# Altium integrated library ON Semi Signal Management Operational Amplifiers.IntLib: 435 symbols (part 10 of 12)
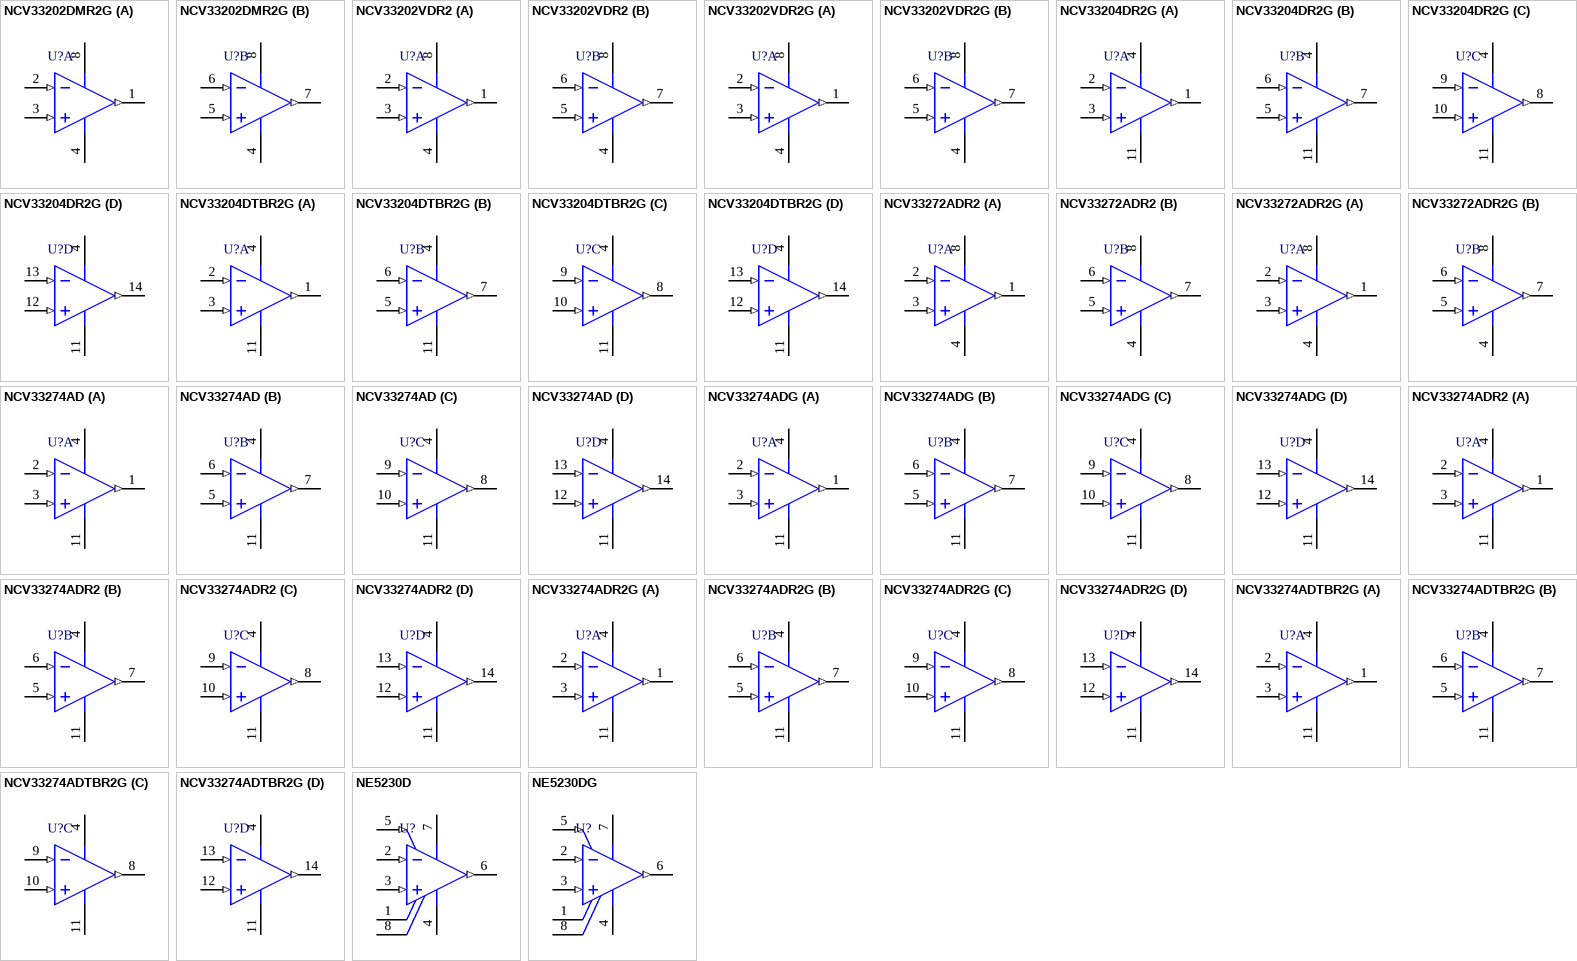
[diagram p34: symbols NCV33202DMR2G to NE5230DG]

## NE5230D
designator U?
Low Voltage Operational Amplifier, 1.8 to 15 V, 0 to 70 degC, 8-Pin SOIC, Tube; Manufacturer: On Semiconductor; PartNumber: NE5230D; GBW Typ (MHz): 0.25; VCC Max (V): 15; VCC Min (V): 1.8; DatasheetVersion: Rev. 5; PackageVersion: Rev. AK, 02/2011; PackageReference: SOIC-8-751-07; PackageDescription: 8-Pin Small Outline Integrated Circuit, Body 4.9 x 3.9 mm, Pitch 1.27 mm; Supplier 1: Digi-Key; Supplier Part Number 1: NE5230D-ND; Packing: Tube; RoHS: FALSE; Mounting Technology: Surface Mount; ComponentLink1Description: Manufacturer URL; ComponentLink1URL: http://www.onsemi.com/; ComponentLink2Description: Datasheet; ComponentLink2URL: http://www.onsemi.cn/pub_link/Collateral/NE5230-D.PDF; ComponentLink3Description: Package Specification; ComponentLink3URL: http://www.onsemi.com/pub_link/Collateral/751-07.PDF
footprint ONSC-SOIC-8-751-07_V (SOIC, 8-Leads, Body 4.9x3.9mm, Pitch 1.27mm)
pins: 1 NC, 2 IN- (in), 3 IN+ (in), 4 VEE (power), 5 BIAS ADJ (in), 6 OUT (out), 7 VCC (power), 8 NC

## NE5230DG
designator U?
Low Voltage Operational Amplifier, 1.8 to 15 V, 0 to 70 degC, 8-Pin SOIC, Pb-Free, Tube; Manufacturer: On Semiconductor; PartNumber: NE5230DG; GBW Typ (MHz): 0.25; VCC Max (V): 15; VCC Min (V): 1.8; DatasheetVersion: Rev. 5; PackageVersion: Rev. AK, 02/2011; PackageReference: SOIC-8-751-07; PackageDescription: 8-Pin Small Outline Integrated Circuit, Body 4.9 x 3.9 mm, Pitch 1.27 mm; Supplier 1: Digi-Key; Supplier Part Number 1: NE5230DG-ND; Supplier 2: Mouser; Supplier Part Number 2: 863-NE5230DG; Packing: Tube; RoHS: TRUE; Mounting Technology: Surface Mount; ComponentLink1Description: Manufacturer URL; ComponentLink1URL: http://www.onsemi.com/; ComponentLink2Description: Datasheet; ComponentLink2URL: http://www.onsemi.cn/pub_link/Collateral/NE5230-D.PDF; ComponentLink3Description: Package Specification; ComponentLink3URL: http://www.onsemi.com/pub_link/Collateral/751-07.PDF
footprint ONSC-SOIC-8-751-07_V (SOIC, 8-Leads, Body 4.9x3.9mm, Pitch 1.27mm)
pins: 1 NC, 2 IN- (in), 3 IN+ (in), 4 VEE (power), 5 BIAS ADJ (in), 6 OUT (out), 7 VCC (power), 8 NC

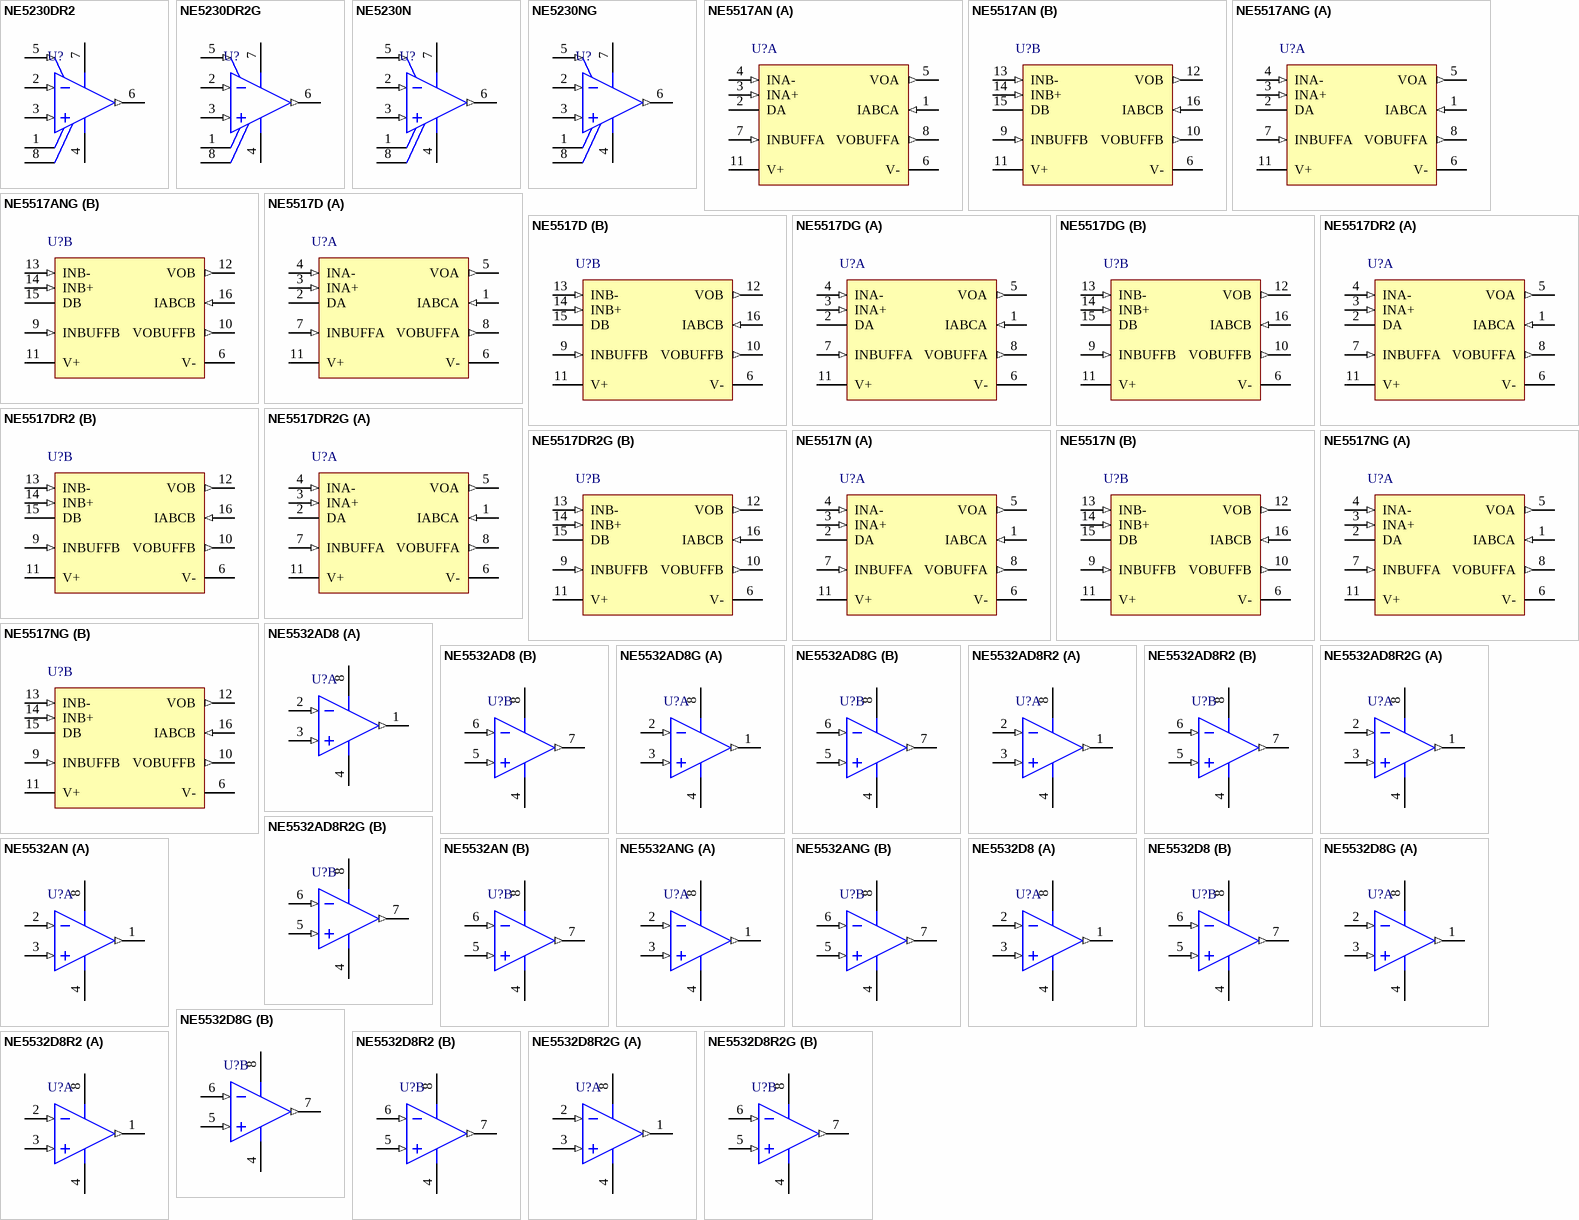
[diagram p22: symbols NE5230DR2 to NE5532D8R2G]

## NE5230DR2
designator U?
Low Voltage Operational Amplifier, 1.8 to 15 V, 0 to 70 degC, 8-Pin SOIC, Tape and Reel; Manufacturer: On Semiconductor; PartNumber: NE5230DR2; GBW Typ (MHz): 0.25; VCC Max (V): 15; VCC Min (V): 1.8; DatasheetVersion: Rev. 5; PackageVersion: Rev. AK, 02/2011; PackageReference: SOIC-8-751-07; PackageDescription: 8-Pin Small Outline Integrated Circuit, Body 4.9 x 3.9 mm, Pitch 1.27 mm; Supplier 1: Digi-Key; Supplier Part Number 1: NE5230DR2-ND; Packing: Tape and Reel; RoHS: FALSE; Mounting Technology: Surface Mount; ComponentLink1Description: Manufacturer URL; ComponentLink1URL: http://www.onsemi.com/; ComponentLink2Description: Datasheet; ComponentLink2URL: http://www.onsemi.cn/pub_link/Collateral/NE5230-D.PDF; ComponentLink3Description: Package Specification; ComponentLink3URL: http://www.onsemi.com/pub_link/Collateral/751-07.PDF
footprint ONSC-SOIC-8-751-07_V (SOIC, 8-Leads, Body 4.9x3.9mm, Pitch 1.27mm)
pins: 1 NC, 2 IN- (in), 3 IN+ (in), 4 VEE (power), 5 BIAS ADJ (in), 6 OUT (out), 7 VCC (power), 8 NC

## NE5230DR2G
designator U?
Low Voltage Operational Amplifier, 1.8 to 15 V, 0 to 70 degC, 8-Pin SOIC, Pb-Free, Tape and Reel; Manufacturer: On Semiconductor; PartNumber: NE5230DR2G; GBW Typ (MHz): 0.25; VCC Max (V): 15; VCC Min (V): 1.8; DatasheetVersion: Rev. 5; PackageVersion: Rev. AK, 02/2011; PackageReference: SOIC-8-751-07; PackageDescription: 8-Pin Small Outline Integrated Circuit, Body 4.9 x 3.9 mm, Pitch 1.27 mm; Supplier 1: Digi-Key; Supplier Part Number 1: NE5230DR2GOSTR-ND; Supplier 2: Digi-Key; Supplier Part Number 2: NE5230DR2GOSCT-ND; Supplier 3: Mouser; Supplier Part Number 3: 863-NE5230DR2G; Packing: Tape and Reel; RoHS: TRUE; Mounting Technology: Surface Mount; ComponentLink1Description: Manufacturer URL; ComponentLink1URL: http://www.onsemi.com/; ComponentLink2Description: Datasheet; ComponentLink2URL: http://www.onsemi.cn/pub_link/Collateral/NE5230-D.PDF; ComponentLink3Description: Package Specification; ComponentLink3URL: http://www.onsemi.com/pub_link/Collateral/751-07.PDF
footprint ONSC-SOIC-8-751-07_V (SOIC, 8-Leads, Body 4.9x3.9mm, Pitch 1.27mm)
pins: 1 NC, 2 IN- (in), 3 IN+ (in), 4 VEE (power), 5 BIAS ADJ (in), 6 OUT (out), 7 VCC (power), 8 NC

## NE5230N
designator U?
Low Voltage Operational Amplifier, 1.8 to 15 V, 0 to 70 degC, 8-Pin PDIP, Tube; Manufacturer: On Semiconductor; PartNumber: NE5230N; GBW Typ (MHz): 0.25; VCC Max (V): 15; VCC Min (V): 1.8; DatasheetVersion: Rev. 5; PackageVersion: Rev. M, 04/2010; PackageReference: PDIP-8-626-05; PackageDescription: 8-Pin Plastic Dual-In Line Package, Body 9.52 x 6.605 mm, Pitch 2.54 mm; Packing: Tube; RoHS: FALSE; Mounting Technology: Through Hole; ComponentLink1Description: Manufacturer URL; ComponentLink1URL: http://www.onsemi.com/; ComponentLink2Description: Datasheet; ComponentLink2URL: http://www.onsemi.cn/pub_link/Collateral/NE5230-D.PDF; ComponentLink3Description: Package Specification; ComponentLink3URL: http://www.onsemi.com/pub_link/Collateral/LM211-D.PDF
footprint ONSC-PDIP-8-626-05_M (DIP, 8-Leads, Body 10x7.1mm, Pitch 2.54mm)
pins: 1 NC, 2 IN- (in), 3 IN+ (in), 4 VEE (power), 5 BIAS ADJ (in), 6 OUT (out), 7 VCC (power), 8 NC

## NE5230NG
designator U?
Low Voltage Operational Amplifier, 1.8 to 15 V, 0 to 70 degC, 8-Pin PDIP, Pb-Free, Tube; Manufacturer: On Semiconductor; PartNumber: NE5230NG; GBW Typ (MHz): 0.25; VCC Max (V): 15; VCC Min (V): 1.8; DatasheetVersion: Rev. 5; PackageVersion: Rev. M, 04/2010; PackageReference: PDIP-8-626-05; PackageDescription: 8-Pin Plastic Dual-In Line Package, Body 9.52 x 6.605 mm, Pitch 2.54 mm; Supplier 1: Digi-Key; Supplier Part Number 1: NE5230NG-ND; Supplier 2: Newark; Supplier Part Number 2: 42K2204; Supplier 3: Mouser; Supplier Part Number 3: 863-NE5230NG; Packing: Tube; RoHS: TRUE; Mounting Technology: Through Hole; ComponentLink1Description: Manufacturer URL; ComponentLink1URL: http://www.onsemi.com/; ComponentLink2Description: Datasheet; ComponentLink2URL: http://www.onsemi.cn/pub_link/Collateral/NE5230-D.PDF; ComponentLink3Description: Package Specification; ComponentLink3URL: http://www.onsemi.com/pub_link/Collateral/LM211-D.PDF
footprint ONSC-PDIP-8-626-05_M (DIP, 8-Leads, Body 10x7.1mm, Pitch 2.54mm)
pins: 1 NC, 2 IN- (in), 3 IN+ (in), 4 VEE (power), 5 BIAS ADJ (in), 6 OUT (out), 7 VCC (power), 8 NC

## NE5517AN
designator U?
Dual Operational Transconductance Amplifier, 0 to 70 degC, 16-Pin PDIP, Tube; Manufacturer: On Semiconductor; PartNumber: NE5517AN; GBW Typ (MHz): 2; SR Typ (V/uS): 50; DatasheetVersion: Rev. 4; PackageVersion: Rev. U, 06/2013; PackageReference: PDIP-16-648-08; PackageDescription: 16-Pin Plastic Dual-In Line Package, Body 19.18 x 6.605 mm, Pitch 2.54 mm; Supplier 1: Digi-Key; Supplier Part Number 1: NE5517AN-ND; Supplier 2: Mouser; Supplier Part Number 2: 863-NE5517AN; Packing: Tube; RoHS: FALSE; Mounting Technology: Through Hole; ComponentLink1Description: Manufacturer URL; ComponentLink1URL: http://www.onsemi.com/; ComponentLink2Description: Datasheet; ComponentLink2URL: http://www.onsemi.cn/pub_link/Collateral/NE5517-D.PDF; ComponentLink3Description: Package Specification; ComponentLink3URL: http://www.onsemi.com/pub_link/Collateral/648-08.PDF
footprint ONSC-PDIP-16-648-08 (DIP, 16-Leads, Body 19.7x7.1mm, Pitch 2.54mm)
pins on every part: 6 V- (power) "Negative Supply", 11 V+ (power) "Positive Supply"
part A pins: 1 IABCA (in) "Amplifier Bias Input A", 2 DA "Diode Bias A", 3 INA+ (in) "Non-inverted Input A", 4 INA- (in) "Inverted Input A", 5 VOA (out) "Output A", 7 INBUFFA (in) "Buffer Input A", 8 VOBUFFA (out) "Buffer Output A"
part B pins: 9 INBUFFB (in) "Buffer Input B", 10 VOBUFFB (out) "Buffer Output B", 12 VOB (out) "Output B", 13 INB- (in) "Inverted Input B", 14 INB+ (in) "Non-inverted Input B", 15 DB "Diode Bias B", 16 IABCB (in) "Amplifier Bias Input B"

## NE5517ANG
designator U?
Dual Operational Transconductance Amplifier, 0 to 70 degC, 16-Pin PDIP, Pb-Free, Tube; Manufacturer: On Semiconductor; PartNumber: NE5517ANG; GBW Typ (MHz): 2; SR Typ (V/uS): 50; DatasheetVersion: Rev. 4; PackageVersion: Rev. U, 06/2013; PackageReference: PDIP-16-648-08; PackageDescription: 16-Pin Plastic Dual-In Line Package, Body 19.18 x 6.605 mm, Pitch 2.54 mm; Supplier 1: Digi-Key; Supplier Part Number 1: NE5517ANGOS-ND; Supplier 2: Newark; Supplier Part Number 2: 42K2205; Supplier 3: Mouser; Supplier Part Number 3: 863-NE5517ANG; Packing: Tube; RoHS: TRUE; Mounting Technology: Through Hole; ComponentLink1Description: Manufacturer URL; ComponentLink1URL: http://www.onsemi.com/; ComponentLink2Description: Datasheet; ComponentLink2URL: http://www.onsemi.cn/pub_link/Collateral/NE5517-D.PDF; ComponentLink3Description: Package Specification; ComponentLink3URL: http://www.onsemi.com/pub_link/Collateral/648-08.PDF
footprint ONSC-PDIP-16-648-08 (DIP, 16-Leads, Body 19.7x7.1mm, Pitch 2.54mm)
pins on every part: 6 V- (power) "Negative Supply", 11 V+ (power) "Positive Supply"
part A pins: 1 IABCA (in) "Amplifier Bias Input A", 2 DA "Diode Bias A", 3 INA+ (in) "Non-inverted Input A", 4 INA- (in) "Inverted Input A", 5 VOA (out) "Output A", 7 INBUFFA (in) "Buffer Input A", 8 VOBUFFA (out) "Buffer Output A"
part B pins: 9 INBUFFB (in) "Buffer Input B", 10 VOBUFFB (out) "Buffer Output B", 12 VOB (out) "Output B", 13 INB- (in) "Inverted Input B", 14 INB+ (in) "Non-inverted Input B", 15 DB "Diode Bias B", 16 IABCB (in) "Amplifier Bias Input B"

## NE5517D
designator U?
Dual Operational Transconductance Amplifier, 0 to 70 degC, 16-Pin SOIC, Tube; Manufacturer: On Semiconductor; PartNumber: NE5517D; GBW Typ (MHz): 2; SR Typ (V/uS): 50; DatasheetVersion: Rev. 4; PackageVersion: Rev. K, 12/2006; PackageReference: SOIC-16-751B-05; PackageDescription: 16-Pin Small Outline Integrated Circuit, Body 9.9 x 3.9 mm, Pitch 1.27 mm; Supplier 1: Digi-Key; Supplier Part Number 1: NE5517D-ND; Packing: Tube; RoHS: FALSE; Mounting Technology: Surface Mount; ComponentLink1Description: Manufacturer URL; ComponentLink1URL: http://www.onsemi.com/; ComponentLink2Description: Datasheet; ComponentLink2URL: http://www.onsemi.cn/pub_link/Collateral/NE5517-D.PDF; ComponentLink3Description: Package Specification; ComponentLink3URL: http://www.onsemi.com/pub_link/Collateral/751B-05.PDF
footprint ONSC-SOIC-16-751B-05_V (SOIC, 16-Leads, Body 10x4mm, Pitch 1.27mm)
pins on every part: 6 V- (power) "Negative Supply", 11 V+ (power) "Positive Supply"
part A pins: 1 IABCA (in) "Amplifier Bias Input A", 2 DA "Diode Bias A", 3 INA+ (in) "Non-inverted Input A", 4 INA- (in) "Inverted Input A", 5 VOA (out) "Output A", 7 INBUFFA (in) "Buffer Input A", 8 VOBUFFA (out) "Buffer Output A"
part B pins: 9 INBUFFB (in) "Buffer Input B", 10 VOBUFFB (out) "Buffer Output B", 12 VOB (out) "Output B", 13 INB- (in) "Inverted Input B", 14 INB+ (in) "Non-inverted Input B", 15 DB "Diode Bias B", 16 IABCB (in) "Amplifier Bias Input B"

## NE5517DG
designator U?
Dual Operational Transconductance Amplifier, 0 to 70 degC, 16-Pin SOIC, Pb-Free, Tube; Manufacturer: On Semiconductor; PartNumber: NE5517DG; GBW Typ (MHz): 2; SR Typ (V/uS): 50; DatasheetVersion: Rev. 4; PackageVersion: Rev. K, 12/2006; PackageReference: SOIC-16-751B-05; PackageDescription: 16-Pin Small Outline Integrated Circuit, Body 9.9 x 3.9 mm, Pitch 1.27 mm; Supplier 1: Digi-Key; Supplier Part Number 1: NE5517DGOS-ND; Supplier 2: Farnell; Supplier Part Number 2: 1705906; Supplier 3: Newark; Supplier Part Number 3: 42K2206; Supplier 4: Mouser; Supplier Part Number 4: 863-NE5517DG; Packing: Tube; RoHS: TRUE; Mounting Technology: Surface Mount; ComponentLink1Description: Manufacturer URL; ComponentLink1URL: http://www.onsemi.com/; ComponentLink2Description: Datasheet; ComponentLink2URL: http://www.onsemi.cn/pub_link/Collateral/NE5517-D.PDF; ComponentLink3Description: Package Specification; ComponentLink3URL: http://www.onsemi.com/pub_link/Collateral/751B-05.PDF
footprint ONSC-SOIC-16-751B-05_V (SOIC, 16-Leads, Body 10x4mm, Pitch 1.27mm)
pins on every part: 6 V- (power) "Negative Supply", 11 V+ (power) "Positive Supply"
part A pins: 1 IABCA (in) "Amplifier Bias Input A", 2 DA "Diode Bias A", 3 INA+ (in) "Non-inverted Input A", 4 INA- (in) "Inverted Input A", 5 VOA (out) "Output A", 7 INBUFFA (in) "Buffer Input A", 8 VOBUFFA (out) "Buffer Output A"
part B pins: 9 INBUFFB (in) "Buffer Input B", 10 VOBUFFB (out) "Buffer Output B", 12 VOB (out) "Output B", 13 INB- (in) "Inverted Input B", 14 INB+ (in) "Non-inverted Input B", 15 DB "Diode Bias B", 16 IABCB (in) "Amplifier Bias Input B"

## NE5517DR2
designator U?
Dual Operational Transconductance Amplifier, 0 to 70 degC, 16-Pin SOIC, Tape and Reel; Manufacturer: On Semiconductor; PartNumber: NE5517DR2; GBW Typ (MHz): 2; SR Typ (V/uS): 50; DatasheetVersion: Rev. 4; PackageVersion: Rev. K, 12/2006; PackageReference: SOIC-16-751B-05; PackageDescription: 16-Pin Small Outline Integrated Circuit, Body 9.9 x 3.9 mm, Pitch 1.27 mm; Supplier 1: Digi-Key; Supplier Part Number 1: NE5517DR2-ND; Packing: Tape and Reel; RoHS: FALSE; Mounting Technology: Surface Mount; ComponentLink1Description: Manufacturer URL; ComponentLink1URL: http://www.onsemi.com/; ComponentLink2Description: Datasheet; ComponentLink2URL: http://www.onsemi.cn/pub_link/Collateral/NE5517-D.PDF; ComponentLink3Description: Package Specification; ComponentLink3URL: http://www.onsemi.com/pub_link/Collateral/751B-05.PDF
footprint ONSC-SOIC-16-751B-05_V (SOIC, 16-Leads, Body 10x4mm, Pitch 1.27mm)
pins on every part: 6 V- (power) "Negative Supply", 11 V+ (power) "Positive Supply"
part A pins: 1 IABCA (in) "Amplifier Bias Input A", 2 DA "Diode Bias A", 3 INA+ (in) "Non-inverted Input A", 4 INA- (in) "Inverted Input A", 5 VOA (out) "Output A", 7 INBUFFA (in) "Buffer Input A", 8 VOBUFFA (out) "Buffer Output A"
part B pins: 9 INBUFFB (in) "Buffer Input B", 10 VOBUFFB (out) "Buffer Output B", 12 VOB (out) "Output B", 13 INB- (in) "Inverted Input B", 14 INB+ (in) "Non-inverted Input B", 15 DB "Diode Bias B", 16 IABCB (in) "Amplifier Bias Input B"

## NE5517DR2G
designator U?
Dual Operational Transconductance Amplifier, 0 to 70 degC, 16-Pin SOIC, Pb-Free, Tape and Reel; Manufacturer: On Semiconductor; PartNumber: NE5517DR2G; GBW Typ (MHz): 2; SR Typ (V/uS): 50; DatasheetVersion: Rev. 4; PackageVersion: Rev. K, 12/2006; PackageReference: SOIC-16-751B-05; PackageDescription: 16-Pin Small Outline Integrated Circuit, Body 9.9 x 3.9 mm, Pitch 1.27 mm; Supplier 1: Digi-Key; Supplier Part Number 1: NE5517DR2GOSTR-ND; Supplier 2: Digi-Key; Supplier Part Number 2: NE5517DR2GOSCT-ND; Supplier 3: Mouser; Supplier Part Number 3: 863-NE5517DR2G; Packing: Tape and Reel; RoHS: TRUE; Mounting Technology: Surface Mount; ComponentLink1Description: Manufacturer URL; ComponentLink1URL: http://www.onsemi.com/; ComponentLink2Description: Datasheet; ComponentLink2URL: http://www.onsemi.cn/pub_link/Collateral/NE5517-D.PDF; ComponentLink3Description: Package Specification; ComponentLink3URL: http://www.onsemi.com/pub_link/Collateral/751B-05.PDF
footprint ONSC-SOIC-16-751B-05_V (SOIC, 16-Leads, Body 10x4mm, Pitch 1.27mm)
pins on every part: 6 V- (power) "Negative Supply", 11 V+ (power) "Positive Supply"
part A pins: 1 IABCA (in) "Amplifier Bias Input A", 2 DA "Diode Bias A", 3 INA+ (in) "Non-inverted Input A", 4 INA- (in) "Inverted Input A", 5 VOA (out) "Output A", 7 INBUFFA (in) "Buffer Input A", 8 VOBUFFA (out) "Buffer Output A"
part B pins: 9 INBUFFB (in) "Buffer Input B", 10 VOBUFFB (out) "Buffer Output B", 12 VOB (out) "Output B", 13 INB- (in) "Inverted Input B", 14 INB+ (in) "Non-inverted Input B", 15 DB "Diode Bias B", 16 IABCB (in) "Amplifier Bias Input B"

## NE5517N
designator U?
Dual Operational Transconductance Amplifier, 0 to 70 degC, 16-Pin PDIP, Tube; Manufacturer: On Semiconductor; PartNumber: NE5517N; GBW Typ (MHz): 2; SR Typ (V/uS): 50; DatasheetVersion: Rev. 4; PackageVersion: Rev. U, 06/2013; PackageReference: PDIP-16-648-08; PackageDescription: 16-Pin Plastic Dual-In Line Package, Body 19.18 x 6.605 mm, Pitch 2.54 mm; Supplier 1: Digi-Key; Supplier Part Number 1: NE5517N-ND; Supplier 2: Mouser; Supplier Part Number 2: 863-NE5517N; Packing: Tube; RoHS: FALSE; Mounting Technology: Through Hole; ComponentLink1Description: Manufacturer URL; ComponentLink1URL: http://www.onsemi.com/; ComponentLink2Description: Datasheet; ComponentLink2URL: http://www.onsemi.cn/pub_link/Collateral/NE5517-D.PDF; ComponentLink3Description: Package Specification; ComponentLink3URL: http://www.onsemi.com/pub_link/Collateral/648-08.PDF
footprint ONSC-PDIP-16-648-08 (DIP, 16-Leads, Body 19.7x7.1mm, Pitch 2.54mm)
pins on every part: 6 V- (power) "Negative Supply", 11 V+ (power) "Positive Supply"
part A pins: 1 IABCA (in) "Amplifier Bias Input A", 2 DA "Diode Bias A", 3 INA+ (in) "Non-inverted Input A", 4 INA- (in) "Inverted Input A", 5 VOA (out) "Output A", 7 INBUFFA (in) "Buffer Input A", 8 VOBUFFA (out) "Buffer Output A"
part B pins: 9 INBUFFB (in) "Buffer Input B", 10 VOBUFFB (out) "Buffer Output B", 12 VOB (out) "Output B", 13 INB- (in) "Inverted Input B", 14 INB+ (in) "Non-inverted Input B", 15 DB "Diode Bias B", 16 IABCB (in) "Amplifier Bias Input B"

## NE5517NG
designator U?
Dual Operational Transconductance Amplifier, 0 to 70 degC, 16-Pin PDIP, Pb-Free, Tube; Manufacturer: On Semiconductor; PartNumber: NE5517NG; GBW Typ (MHz): 2; SR Typ (V/uS): 50; DatasheetVersion: Rev. 4; PackageVersion: Rev. U, 06/2013; PackageReference: PDIP-16-648-08; PackageDescription: 16-Pin Plastic Dual-In Line Package, Body 19.18 x 6.605 mm, Pitch 2.54 mm; Supplier 1: Digi-Key; Supplier Part Number 1: NE5517NG-ND; Supplier 2: Newark; Supplier Part Number 2: 42K2207; Supplier 3: Mouser; Supplier Part Number 3: 863-NE5517NG; Packing: Tube; RoHS: TRUE; Mounting Technology: Through Hole; ComponentLink1Description: Manufacturer URL; ComponentLink1URL: http://www.onsemi.com/; ComponentLink2Description: Datasheet; ComponentLink2URL: http://www.onsemi.cn/pub_link/Collateral/NE5517-D.PDF; ComponentLink3Description: Package Specification; ComponentLink3URL: http://www.onsemi.com/pub_link/Collateral/648-08.PDF
footprint ONSC-PDIP-16-648-08 (DIP, 16-Leads, Body 19.7x7.1mm, Pitch 2.54mm)
pins on every part: 6 V- (power) "Negative Supply", 11 V+ (power) "Positive Supply"
part A pins: 1 IABCA (in) "Amplifier Bias Input A", 2 DA "Diode Bias A", 3 INA+ (in) "Non-inverted Input A", 4 INA- (in) "Inverted Input A", 5 VOA (out) "Output A", 7 INBUFFA (in) "Buffer Input A", 8 VOBUFFA (out) "Buffer Output A"
part B pins: 9 INBUFFB (in) "Buffer Input B", 10 VOBUFFB (out) "Buffer Output B", 12 VOB (out) "Output B", 13 INB- (in) "Inverted Input B", 14 INB+ (in) "Non-inverted Input B", 15 DB "Diode Bias B", 16 IABCB (in) "Amplifier Bias Input B"

## NE5532AD8
designator U?
Internally Compensated Dual Low Noise Operational Amplifier, 6 to 40 V, 0 to 70 degC, 8-Pin SOIC, Tube; Manufacturer: On Semiconductor; PartNumber: NE5532AD8; GBW Typ (MHz): 10; SR Typ (V/uS): 9; VCC Max (V): 40; VCC Min (V): 6; DatasheetVersion: Rev. 2; PackageVersion: Rev. AK, 02/2011; PackageReference: SOIC-8-751-07; PackageDescription: 8-Pin Small Outline Integrated Circuit, Body 4.9 x 3.9 mm, Pitch 1.27 mm; Supplier 1: Digi-Key; Supplier Part Number 1: NE5532AD8-ND; Packing: Tube; RoHS: FALSE; Mounting Technology: Surface Mount; ComponentLink1Description: Manufacturer URL; ComponentLink1URL: http://www.onsemi.com/; ComponentLink2Description: Datasheet; ComponentLink2URL: http://www.onsemi.cn/pub_link/Collateral/NE5532-D.PDF; ComponentLink3Description: Package Specification; ComponentLink3URL: http://www.onsemi.com/pub_link/Collateral/751-07.PDF
footprint ONSC-SOIC-8-751-07_V (SOIC, 8-Leads, Body 4.9x3.9mm, Pitch 1.27mm)
pins on every part: 4 V- (power), 8 V+ (power)
part A pins: 1 OUTA (out), 2 INA- (in), 3 INA+ (in)
part B pins: 5 INB+ (in), 6 INB- (in), 7 OUTB (out)

## NE5532AD8G
designator U?
Internally Compensated Dual Low Noise Operational Amplifier, 6 to 40 V, 0 to 70 degC, 8-Pin SOIC, Pb-Free, Tube; Manufacturer: On Semiconductor; PartNumber: NE5532AD8G; GBW Typ (MHz): 10; SR Typ (V/uS): 9; VCC Max (V): 40; VCC Min (V): 6; DatasheetVersion: Rev. 2; PackageVersion: Rev. AK, 02/2011; PackageReference: SOIC-8-751-07; PackageDescription: 8-Pin Small Outline Integrated Circuit, Body 4.9 x 3.9 mm, Pitch 1.27 mm; Supplier 1: Digi-Key; Supplier Part Number 1: NE5532AD8GOS-ND; Supplier 2: Farnell; Supplier Part Number 2: 1426379; Supplier 3: Newark; Supplier Part Number 3: 58M9768; Supplier 4: Newark; Supplier Part Number 4: 42K2208; Supplier 5: Mouser; Supplier Part Number 5: 863-NE5532AD8G; Packing: Tube; RoHS: TRUE; Mounting Technology: Surface Mount; ComponentLink1Description: Manufacturer URL; ComponentLink1URL: http://www.onsemi.com/; ComponentLink2Description: Datasheet; ComponentLink2URL: http://www.onsemi.cn/pub_link/Collateral/NE5532-D.PDF; ComponentLink3Description: Package Specification; ComponentLink3URL: http://www.onsemi.com/pub_link/Collateral/751-07.PDF
footprint ONSC-SOIC-8-751-07_V (SOIC, 8-Leads, Body 4.9x3.9mm, Pitch 1.27mm)
pins on every part: 4 V- (power), 8 V+ (power)
part A pins: 1 OUTA (out), 2 INA- (in), 3 INA+ (in)
part B pins: 5 INB+ (in), 6 INB- (in), 7 OUTB (out)

## NE5532AD8R2
designator U?
Internally Compensated Dual Low Noise Operational Amplifier, 6 to 40 V, 0 to 70 degC, 8-Pin SOIC, Tape and Reel; Manufacturer: On Semiconductor; PartNumber: NE5532AD8R2; GBW Typ (MHz): 10; SR Typ (V/uS): 9; VCC Max (V): 40; VCC Min (V): 6; DatasheetVersion: Rev. 2; PackageVersion: Rev. AK, 02/2011; PackageReference: SOIC-8-751-07; PackageDescription: 8-Pin Small Outline Integrated Circuit, Body 4.9 x 3.9 mm, Pitch 1.27 mm; Supplier 1: Digi-Key; Supplier Part Number 1: NE5532AD8R2-ND; Packing: Tape and Reel; RoHS: FALSE; Mounting Technology: Surface Mount; ComponentLink1Description: Manufacturer URL; ComponentLink1URL: http://www.onsemi.com/; ComponentLink2Description: Datasheet; ComponentLink2URL: http://www.onsemi.cn/pub_link/Collateral/NE5532-D.PDF; ComponentLink3Description: Package Specification; ComponentLink3URL: http://www.onsemi.com/pub_link/Collateral/751-07.PDF
footprint ONSC-SOIC-8-751-07_V (SOIC, 8-Leads, Body 4.9x3.9mm, Pitch 1.27mm)
pins on every part: 4 V- (power), 8 V+ (power)
part A pins: 1 OUTA (out), 2 INA- (in), 3 INA+ (in)
part B pins: 5 INB+ (in), 6 INB- (in), 7 OUTB (out)

## NE5532AD8R2G
designator U?
Internally Compensated Dual Low Noise Operational Amplifier, 6 to 40 V, 0 to 70 degC, 8-Pin SOIC, Pb-Free, Tape and Reel; Manufacturer: On Semiconductor; PartNumber: NE5532AD8R2G; GBW Typ (MHz): 10; SR Typ (V/uS): 9; VCC Max (V): 40; VCC Min (V): 6; DatasheetVersion: Rev. 2; PackageVersion: Rev. AK, 02/2011; PackageReference: SOIC-8-751-07; PackageDescription: 8-Pin Small Outline Integrated Circuit, Body 4.9 x 3.9 mm, Pitch 1.27 mm; Supplier 1: Digi-Key; Supplier Part Number 1: NE5532AD8R2GOSTR-ND; Supplier 2: Digi-Key; Supplier Part Number 2: NE5532AD8R2GOSCT-ND; Supplier 3: Mouser; Supplier Part Number 3: 863-NE5532AD8R2G; Packing: Tape and Reel; RoHS: TRUE; Mounting Technology: Surface Mount; ComponentLink1Description: Manufacturer URL; ComponentLink1URL: http://www.onsemi.com/; ComponentLink2Description: Datasheet; ComponentLink2URL: http://www.onsemi.cn/pub_link/Collateral/NE5532-D.PDF; ComponentLink3Description: Package Specification; ComponentLink3URL: http://www.onsemi.com/pub_link/Collateral/751-07.PDF
footprint ONSC-SOIC-8-751-07_V (SOIC, 8-Leads, Body 4.9x3.9mm, Pitch 1.27mm)
pins on every part: 4 V- (power), 8 V+ (power)
part A pins: 1 OUTA (out), 2 INA- (in), 3 INA+ (in)
part B pins: 5 INB+ (in), 6 INB- (in), 7 OUTB (out)

## NE5532AN
designator U?
Internally Compensated Dual Low Noise Operational Amplifier, 6 to 40 V, 0 to 70 degC, 8-Pin PDIP, Tube; Manufacturer: On Semiconductor; PartNumber: NE5532AN; GBW Typ (MHz): 10; SR Typ (V/uS): 9; VCC Max (V): 40; VCC Min (V): 6; DatasheetVersion: Rev. 2; PackageVersion: Rev. N, 06/2013; PackageReference: PDIP-8-626-05; PackageDescription: 8-Pin Plastic Dual-In Line Package, Body 9.59 x 6.605 mm, Pitch 2.54 mm; Supplier 1: Digi-Key; Supplier Part Number 1: NE5532AN-ND; Packing: Tube; RoHS: FALSE; Mounting Technology: Through Hole; ComponentLink1Description: Manufacturer URL; ComponentLink1URL: http://www.onsemi.com/; ComponentLink2Description: Datasheet; ComponentLink2URL: http://www.onsemi.cn/pub_link/Collateral/NE5532-D.PDF; ComponentLink3Description: Package Specification; ComponentLink3URL: http://www.onsemi.cn/pub_link/Collateral/626-05.PDF
footprint ONSC-PDIP-8-626-05 (DIP, 8-Leads, Body 10.15x7.1mm, Pitch 2.54mm)
pins on every part: 4 V- (power), 8 V+ (power)
part A pins: 1 OUTA (out), 2 INA- (in), 3 INA+ (in)
part B pins: 5 INB+ (in), 6 INB- (in), 7 OUTB (out)

## NE5532ANG
designator U?
Internally Compensated Dual Low Noise Operational Amplifier, 6 to 40 V, 0 to 70 degC, 8-Pin PDIP, Pb-Free, Tube; Manufacturer: On Semiconductor; PartNumber: NE5532ANG; GBW Typ (MHz): 10; SR Typ (V/uS): 9; VCC Max (V): 40; VCC Min (V): 6; DatasheetVersion: Rev. 2; PackageVersion: Rev. N, 06/2013; PackageReference: PDIP-8-626-05; PackageDescription: 8-Pin Plastic Dual-In Line Package, Body 9.59 x 6.605 mm, Pitch 2.54 mm; Supplier 1: Digi-Key; Supplier Part Number 1: NE5532ANGOS-ND; Supplier 2: Farnell; Supplier Part Number 2: 1426380; Supplier 3: Newark; Supplier Part Number 3: 26K5043; Supplier 4: Mouser; Supplier Part Number 4: 863-NE5532ANG; Packing: Tube; RoHS: TRUE; Mounting Technology: Through Hole; ComponentLink1Description: Manufacturer URL; ComponentLink1URL: http://www.onsemi.com/; ComponentLink2Description: Datasheet; ComponentLink2URL: http://www.onsemi.cn/pub_link/Collateral/NE5532-D.PDF; ComponentLink3Description: Package Specification; ComponentLink3URL: http://www.onsemi.cn/pub_link/Collateral/626-05.PDF
footprint ONSC-PDIP-8-626-05 (DIP, 8-Leads, Body 10.15x7.1mm, Pitch 2.54mm)
pins on every part: 4 V- (power), 8 V+ (power)
part A pins: 1 OUTA (out), 2 INA- (in), 3 INA+ (in)
part B pins: 5 INB+ (in), 6 INB- (in), 7 OUTB (out)

## NE5532D8
designator U?
Internally Compensated Dual Low Noise Operational Amplifier, 6 to 40 V, 0 to 70 degC, 8-Pin SOIC, Tube; Manufacturer: On Semiconductor; PartNumber: NE5532D8; GBW Typ (MHz): 10; SR Typ (V/uS): 9; VCC Max (V): 40; VCC Min (V): 6; DatasheetVersion: Rev. 2; PackageVersion: Rev. AK, 02/2011; PackageReference: SOIC-8-751-07; PackageDescription: 8-Pin Small Outline Integrated Circuit, Body 4.9 x 3.9 mm, Pitch 1.27 mm; Packing: Tube; RoHS: FALSE; Mounting Technology: Surface Mount; ComponentLink1Description: Manufacturer URL; ComponentLink1URL: http://www.onsemi.com/; ComponentLink2Description: Datasheet; ComponentLink2URL: http://www.onsemi.cn/pub_link/Collateral/NE5532-D.PDF; ComponentLink3Description: Package Specification; ComponentLink3URL: http://www.onsemi.com/pub_link/Collateral/751-07.PDF
footprint ONSC-SOIC-8-751-07_V (SOIC, 8-Leads, Body 4.9x3.9mm, Pitch 1.27mm)
pins on every part: 4 V- (power), 8 V+ (power)
part A pins: 1 OUTA (out), 2 INA- (in), 3 INA+ (in)
part B pins: 5 INB+ (in), 6 INB- (in), 7 OUTB (out)

## NE5532D8G
designator U?
Internally Compensated Dual Low Noise Operational Amplifier, 6 to 40 V, 0 to 70 degC, 8-Pin SOIC, Pb-Free, Tube; Manufacturer: On Semiconductor; PartNumber: NE5532D8G; GBW Typ (MHz): 10; SR Typ (V/uS): 9; VCC Max (V): 40; VCC Min (V): 6; DatasheetVersion: Rev. 2; PackageVersion: Rev. AK, 02/2011; PackageReference: SOIC-8-751-07; PackageDescription: 8-Pin Small Outline Integrated Circuit, Body 4.9 x 3.9 mm, Pitch 1.27 mm; Supplier 1: Digi-Key; Supplier Part Number 1: NE5532D8GOS-ND; Supplier 2: Newark; Supplier Part Number 2: 42K2211; Supplier 3: Mouser; Supplier Part Number 3: 863-NE5532D8G; Packing: Tube; RoHS: TRUE; Mounting Technology: Surface Mount; ComponentLink1Description: Manufacturer URL; ComponentLink1URL: http://www.onsemi.com/; ComponentLink2Description: Datasheet; ComponentLink2URL: http://www.onsemi.cn/pub_link/Collateral/NE5532-D.PDF; ComponentLink3Description: Package Specification; ComponentLink3URL: http://www.onsemi.com/pub_link/Collateral/751-07.PDF
footprint ONSC-SOIC-8-751-07_V (SOIC, 8-Leads, Body 4.9x3.9mm, Pitch 1.27mm)
pins on every part: 4 V- (power), 8 V+ (power)
part A pins: 1 OUTA (out), 2 INA- (in), 3 INA+ (in)
part B pins: 5 INB+ (in), 6 INB- (in), 7 OUTB (out)

## NE5532D8R2
designator U?
Internally Compensated Dual Low Noise Operational Amplifier, 6 to 40 V, 0 to 70 degC, 8-Pin SOIC, Tape and Reel; Manufacturer: On Semiconductor; PartNumber: NE5532D8R2; GBW Typ (MHz): 10; SR Typ (V/uS): 9; VCC Max (V): 40; VCC Min (V): 6; DatasheetVersion: Rev. 2; PackageVersion: Rev. AK, 02/2011; PackageReference: SOIC-8-751-07; PackageDescription: 8-Pin Small Outline Integrated Circuit, Body 4.9 x 3.9 mm, Pitch 1.27 mm; Supplier 1: Digi-Key; Supplier Part Number 1: NE5532D8R2-ND; Packing: Tape and Reel; RoHS: FALSE; Mounting Technology: Surface Mount; ComponentLink1Description: Manufacturer URL; ComponentLink1URL: http://www.onsemi.com/; ComponentLink2Description: Datasheet; ComponentLink2URL: http://www.onsemi.cn/pub_link/Collateral/NE5532-D.PDF; ComponentLink3Description: Package Specification; ComponentLink3URL: http://www.onsemi.com/pub_link/Collateral/751-07.PDF
footprint ONSC-SOIC-8-751-07_V (SOIC, 8-Leads, Body 4.9x3.9mm, Pitch 1.27mm)
pins on every part: 4 V- (power), 8 V+ (power)
part A pins: 1 OUTA (out), 2 INA- (in), 3 INA+ (in)
part B pins: 5 INB+ (in), 6 INB- (in), 7 OUTB (out)

## NE5532D8R2G
designator U?
Internally Compensated Dual Low Noise Operational Amplifier, 6 to 40 V, 0 to 70 degC, 8-Pin SOIC, Pb-Free, Tape and Reel; Manufacturer: On Semiconductor; PartNumber: NE5532D8R2G; GBW Typ (MHz): 10; SR Typ (V/uS): 9; VCC Max (V): 40; VCC Min (V): 6; DatasheetVersion: Rev. 2; PackageVersion: Rev. AK, 02/2011; PackageReference: SOIC-8-751-07; PackageDescription: 8-Pin Small Outline Integrated Circuit, Body 4.9 x 3.9 mm, Pitch 1.27 mm; Supplier 1: Digi-Key; Supplier Part Number 1: NE5532D8R2GOSTR-ND; Supplier 2: Digi-Key; Supplier Part Number 2: NE5532D8R2GOSCT-ND; Supplier 3: Newark; Supplier Part Number 3: 42K2212; Supplier 4: Mouser; Supplier Part Number 4: 863-NE5532D8R2G; Packing: Tape and Reel; RoHS: TRUE; Mounting Technology: Surface Mount; ComponentLink1Description: Manufacturer URL; ComponentLink1URL: http://www.onsemi.com/; ComponentLink2Description: Datasheet; ComponentLink2URL: http://www.onsemi.cn/pub_link/Collateral/NE5532-D.PDF; ComponentLink3Description: Package Specification; ComponentLink3URL: http://www.onsemi.com/pub_link/Collateral/751-07.PDF
footprint ONSC-SOIC-8-751-07_V (SOIC, 8-Leads, Body 4.9x3.9mm, Pitch 1.27mm)
pins on every part: 4 V- (power), 8 V+ (power)
part A pins: 1 OUTA (out), 2 INA- (in), 3 INA+ (in)
part B pins: 5 INB+ (in), 6 INB- (in), 7 OUTB (out)

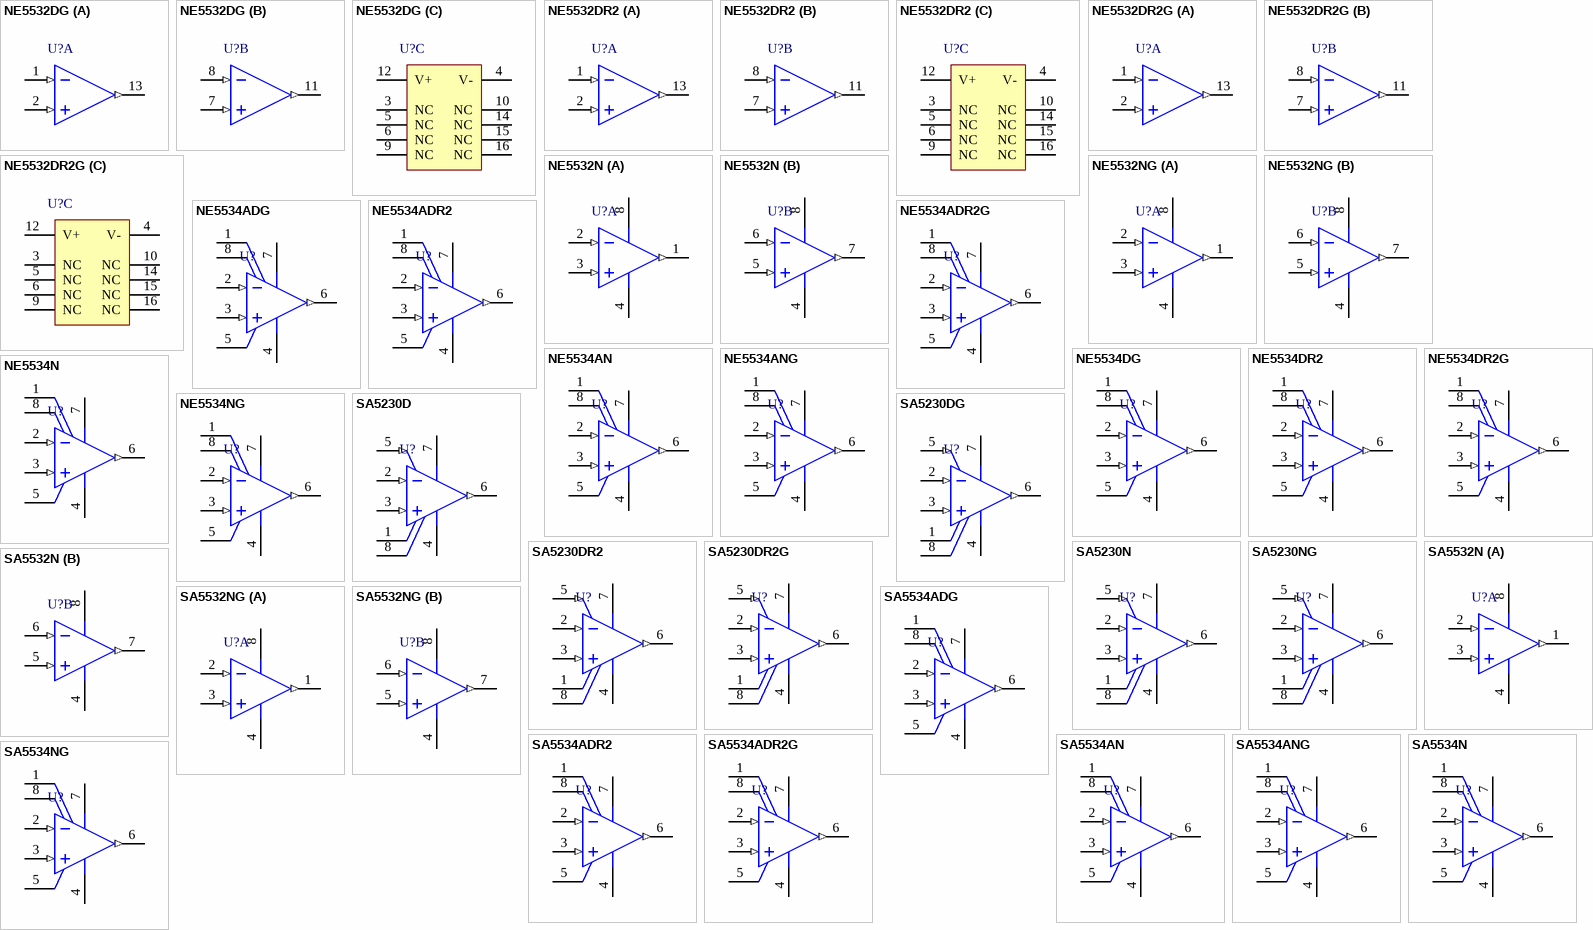
[diagram p23: symbols NE5532DG to SA5534NG]

## NE5532DG
designator U?
Internally Compensated Dual Low Noise Operational Amplifier, 6 to 40 V, 0 to 70 degC, 16-Pin SOIC, Pb-Free, Tube; Manufacturer: On Semiconductor; PartNumber: NE5532DG; GBW Typ (MHz): 10; SR Typ (V/uS): 9; VCC Max (V): 40; VCC Min (V): 6; DatasheetVersion: Rev. 2; PackageVersion: Rev. D, 02/2013; PackageReference: SOIC-16-751G-03; PackageDescription: 16-Pin Small Outline Integrated Circuit, Body 10.3 x 7.5 mm, Pitch 1.27 mm; Supplier 1: Digi-Key; Supplier Part Number 1: NE5532DGOS-ND; Supplier 2: Farnell; Supplier Part Number 2: 2102558; Supplier 3: Newark; Supplier Part Number 3: 42K2210; Supplier 4: Mouser; Supplier Part Number 4: 863-NE5532DG; Packing: Tube; RoHS: TRUE; Mounting Technology: Surface Mount; ComponentLink1Description: Manufacturer URL; ComponentLink1URL: http://www.onsemi.com/; ComponentLink2Description: Datasheet; ComponentLink2URL: http://www.onsemi.cn/pub_link/Collateral/NE5532-D.PDF; ComponentLink3Description: Package Specification; ComponentLink3URL: http://www.onsemi.com/pub_link/Collateral/751G-03.PDF
footprint ONSC-SOIC-16-751G-03_V (SOIC, 16-Leads, Body 10.45x7.6mm, Pitch 1.27mm)
part A pins: 1 INA- (in), 2 INA+ (in), 13 OUTA (out)
part B pins: 7 INB+ (in), 8 INB- (in), 11 OUTB (out)
part C pins: 3 NC, 4 V- (power), 5 NC, 6 NC, 9 NC, 10 NC, 12 V+ (power), 14 NC, 15 NC, 16 NC

## NE5532DR2
designator U?
Internally Compensated Dual Low Noise Operational Amplifier, 6 to 40 V, 0 to 70 degC, 16-Pin SOIC, Tape and Reel; Manufacturer: On Semiconductor; PartNumber: NE5532DR2; GBW Typ (MHz): 10; SR Typ (V/uS): 9; VCC Max (V): 40; VCC Min (V): 6; DatasheetVersion: Rev. 2; PackageVersion: Rev. D, 02/2013; PackageReference: SOIC-16-751G-03; PackageDescription: 16-Pin Small Outline Integrated Circuit, Body 10.3 x 7.5 mm, Pitch 1.27 mm; Packing: Tape and Reel; RoHS: FALSE; Mounting Technology: Surface Mount; ComponentLink1Description: Manufacturer URL; ComponentLink1URL: http://www.onsemi.com/; ComponentLink2Description: Datasheet; ComponentLink2URL: http://www.onsemi.cn/pub_link/Collateral/NE5532-D.PDF; ComponentLink3Description: Package Specification; ComponentLink3URL: http://www.onsemi.com/pub_link/Collateral/751G-03.PDF
footprint ONSC-SOIC-16-751G-03_V (SOIC, 16-Leads, Body 10.45x7.6mm, Pitch 1.27mm)
part A pins: 1 INA- (in), 2 INA+ (in), 13 OUTA (out)
part B pins: 7 INB+ (in), 8 INB- (in), 11 OUTB (out)
part C pins: 3 NC, 4 V- (power), 5 NC, 6 NC, 9 NC, 10 NC, 12 V+ (power), 14 NC, 15 NC, 16 NC

## NE5532DR2G
designator U?
Internally Compensated Dual Low Noise Operational Amplifier, 6 to 40 V, 0 to 70 degC, 16-Pin SOIC, Pb-Free, Tape and Reel; Manufacturer: On Semiconductor; PartNumber: NE5532DR2G; GBW Typ (MHz): 10; SR Typ (V/uS): 9; VCC Max (V): 40; VCC Min (V): 6; DatasheetVersion: Rev. 2; PackageVersion: Rev. D, 02/2013; PackageReference: SOIC-16-751G-03; PackageDescription: 16-Pin Small Outline Integrated Circuit, Body 10.3 x 7.5 mm, Pitch 1.27 mm; Supplier 1: Digi-Key; Supplier Part Number 1: NE5532DR2GOSTR-ND; Supplier 2: Digi-Key; Supplier Part Number 2: NE5532DR2GOSCT-ND; Supplier 3: Digi-Key; Supplier Part Number 3: NE5532DR2GOSDKR-ND; Supplier 4: Newark; Supplier Part Number 4: 26K5046; Supplier 5: Mouser; Supplier Part Number 5: 863-NE5532DR2G; Packing: Tape and Reel; RoHS: TRUE; Mounting Technology: Surface Mount; ComponentLink1Description: Manufacturer URL; ComponentLink1URL: http://www.onsemi.com/; ComponentLink2Description: Datasheet; ComponentLink2URL: http://www.onsemi.cn/pub_link/Collateral/NE5532-D.PDF; ComponentLink3Description: Package Specification; ComponentLink3URL: http://www.onsemi.com/pub_link/Collateral/751G-03.PDF
footprint ONSC-SOIC-16-751G-03_V (SOIC, 16-Leads, Body 10.45x7.6mm, Pitch 1.27mm)
part A pins: 1 INA- (in), 2 INA+ (in), 13 OUTA (out)
part B pins: 7 INB+ (in), 8 INB- (in), 11 OUTB (out)
part C pins: 3 NC, 4 V- (power), 5 NC, 6 NC, 9 NC, 10 NC, 12 V+ (power), 14 NC, 15 NC, 16 NC

## NE5532N
designator U?
Internally Compensated Dual Low Noise Operational Amplifier, 6 to 40 V, 0 to 70 degC, 8-Pin PDIP, Tube; Manufacturer: On Semiconductor; PartNumber: NE5532N; GBW Typ (MHz): 10; SR Typ (V/uS): 9; VCC Max (V): 40; VCC Min (V): 6; DatasheetVersion: Rev. 2; PackageVersion: Rev. N, 06/2013; PackageReference: PDIP-8-626-05; PackageDescription: 8-Pin Plastic Dual-In Line Package, Body 9.59 x 6.605 mm, Pitch 2.54 mm; Supplier 1: Digi-Key; Supplier Part Number 1: NE5532NOS-ND; Packing: Tube; RoHS: FALSE; Mounting Technology: Through Hole; ComponentLink1Description: Manufacturer URL; ComponentLink1URL: http://www.onsemi.com/; ComponentLink2Description: Datasheet; ComponentLink2URL: http://www.onsemi.cn/pub_link/Collateral/NE5532-D.PDF; ComponentLink3Description: Package Specification; ComponentLink3URL: http://www.onsemi.cn/pub_link/Collateral/626-05.PDF
footprint ONSC-PDIP-8-626-05 (DIP, 8-Leads, Body 10.15x7.1mm, Pitch 2.54mm)
pins on every part: 4 V- (power), 8 V+ (power)
part A pins: 1 OUTA (out), 2 INA- (in), 3 INA+ (in)
part B pins: 5 INB+ (in), 6 INB- (in), 7 OUTB (out)

## NE5532NG
designator U?
Internally Compensated Dual Low Noise Operational Amplifier, 6 to 40 V, 0 to 70 degC, 8-Pin PDIP, Pb-Free, Tube; Manufacturer: On Semiconductor; PartNumber: NE5532NG; GBW Typ (MHz): 10; SR Typ (V/uS): 9; VCC Max (V): 40; VCC Min (V): 6; DatasheetVersion: Rev. 2; PackageVersion: Rev. N, 06/2013; PackageReference: PDIP-8-626-05; PackageDescription: 8-Pin Plastic Dual-In Line Package, Body 9.59 x 6.605 mm, Pitch 2.54 mm; Supplier 1: Digi-Key; Supplier Part Number 1: NE5532NGOS-ND; Supplier 2: Farnell; Supplier Part Number 2: 1705909; Supplier 3: Newark; Supplier Part Number 3: 42K2213; Supplier 4: Mouser; Supplier Part Number 4: 863-NE5532NG; Packing: Tube; RoHS: TRUE; Mounting Technology: Through Hole; ComponentLink1Description: Manufacturer URL; ComponentLink1URL: http://www.onsemi.com/; ComponentLink2Description: Datasheet; ComponentLink2URL: http://www.onsemi.cn/pub_link/Collateral/NE5532-D.PDF; ComponentLink3Description: Package Specification; ComponentLink3URL: http://www.onsemi.cn/pub_link/Collateral/626-05.PDF
footprint ONSC-PDIP-8-626-05 (DIP, 8-Leads, Body 10.15x7.1mm, Pitch 2.54mm)
pins on every part: 4 V- (power), 8 V+ (power)
part A pins: 1 OUTA (out), 2 INA- (in), 3 INA+ (in)
part B pins: 5 INB+ (in), 6 INB- (in), 7 OUTB (out)

## NE5534ADG
designator U?
Single Low Noise Operational Amplifier, 6 to 40 V, 0 to 70 degC, 8-Pin SOIC, Pb-Free, Tube; Manufacturer: On Semiconductor; PartNumber: NE5534ADG; GBW Typ (MHz): 10; VCC Max (V): 40; VCC Min (V): 6; DatasheetVersion: Rev. 3; PackageVersion: Rev. AK, 02/2011; PackageReference: SOIC-8-751-07; PackageDescription: 8-Pin Small Outline Integrated Circuit, Body 4.9 x 3.9 mm, Pitch 1.27 mm; Supplier 1: Digi-Key; Supplier Part Number 1: NE5534ADGOS-ND; Supplier 2: Farnell; Supplier Part Number 2: 1426385; Supplier 3: Newark; Supplier Part Number 3: 58M9770; Supplier 4: Mouser; Supplier Part Number 4: 863-NE5534ADG; Packing: Tube; RoHS: TRUE; Mounting Technology: Surface Mount; ComponentLink1Description: Manufacturer URL; ComponentLink1URL: http://www.onsemi.com/; ComponentLink2Description: Datasheet; ComponentLink2URL: http://www.onsemi.cn/pub_link/Collateral/NE5534-D.PDF; ComponentLink3Description: Package Specification; ComponentLink3URL: http://www.onsemi.com/pub_link/Collateral/751-07.PDF
footprint ONSC-SOIC-8-751-07_V (SOIC, 8-Leads, Body 4.9x3.9mm, Pitch 1.27mm)
pins: 1 BALANCE, 2 IN- (in), 3 IN+ (in), 4 V- (power), 5 COMPENSATION, 6 OUT (out), 7 V+ (power), 8 BALANCE/COMPENSATION

## NE5534ADR2
designator U?
Single Low Noise Operational Amplifier, 6 to 40 V, 0 to 70 degC, 8-Pin SOIC, Tape and Reel; Manufacturer: On Semiconductor; PartNumber: NE5534ADR2; GBW Typ (MHz): 10; VCC Max (V): 40; VCC Min (V): 6; DatasheetVersion: Rev. 3; PackageVersion: Rev. AK, 02/2011; PackageReference: SOIC-8-751-07; PackageDescription: 8-Pin Small Outline Integrated Circuit, Body 4.9 x 3.9 mm, Pitch 1.27 mm; Supplier 1: Digi-Key; Supplier Part Number 1: NE5534ADR2-ND; Packing: Tape and Reel; RoHS: FALSE; Mounting Technology: Surface Mount; ComponentLink1Description: Manufacturer URL; ComponentLink1URL: http://www.onsemi.com/; ComponentLink2Description: Datasheet; ComponentLink2URL: http://www.onsemi.cn/pub_link/Collateral/NE5534-D.PDF; ComponentLink3Description: Package Specification; ComponentLink3URL: http://www.onsemi.com/pub_link/Collateral/751-07.PDF
footprint ONSC-SOIC-8-751-07_V (SOIC, 8-Leads, Body 4.9x3.9mm, Pitch 1.27mm)
pins: 1 BALANCE, 2 IN- (in), 3 IN+ (in), 4 V- (power), 5 COMPENSATION, 6 OUT (out), 7 V+ (power), 8 BALANCE/COMPENSATION

## NE5534ADR2G
designator U?
Single Low Noise Operational Amplifier, 6 to 40 V, 0 to 70 degC, 8-Pin SOIC, Pb-Free, Tape and Reel; Manufacturer: On Semiconductor; PartNumber: NE5534ADR2G; GBW Typ (MHz): 10; VCC Max (V): 40; VCC Min (V): 6; DatasheetVersion: Rev. 3; PackageVersion: Rev. AK, 02/2011; PackageReference: SOIC-8-751-07; PackageDescription: 8-Pin Small Outline Integrated Circuit, Body 4.9 x 3.9 mm, Pitch 1.27 mm; Supplier 1: Digi-Key; Supplier Part Number 1: NE5534ADR2GOSTR-ND; Supplier 2: Digi-Key; Supplier Part Number 2: NE5534ADR2GOSCT-ND; Supplier 3: Mouser; Supplier Part Number 3: 863-NE5534ADR2G; Packing: Tape and Reel; RoHS: TRUE; Mounting Technology: Surface Mount; ComponentLink1Description: Manufacturer URL; ComponentLink1URL: http://www.onsemi.com/; ComponentLink2Description: Datasheet; ComponentLink2URL: http://www.onsemi.cn/pub_link/Collateral/NE5534-D.PDF; ComponentLink3Description: Package Specification; ComponentLink3URL: http://www.onsemi.com/pub_link/Collateral/751-07.PDF
footprint ONSC-SOIC-8-751-07_V (SOIC, 8-Leads, Body 4.9x3.9mm, Pitch 1.27mm)
pins: 1 BALANCE, 2 IN- (in), 3 IN+ (in), 4 V- (power), 5 COMPENSATION, 6 OUT (out), 7 V+ (power), 8 BALANCE/COMPENSATION

## NE5534AN
designator U?
Single Low Noise Operational Amplifier, 6 to 40 V, 0 to 70 degC, 8-Pin PDIP, Tube; Manufacturer: On Semiconductor; PartNumber: NE5534AN; GBW Typ (MHz): 10; VCC Max (V): 40; VCC Min (V): 6; DatasheetVersion: Rev. 3; PackageVersion: Rev. M, 04/2010; PackageReference: PDIP-8-626-05; PackageDescription: 8-Pin Plastic Dual-In Line Package, Body 9.52 x 6.605 mm, Pitch 2.54 mm; Supplier 1: Digi-Key; Supplier Part Number 1: NE5534AN-ND; Supplier 2: Mouser; Supplier Part Number 2: 863-NE5534AN; Packing: Tube; RoHS: FALSE; Mounting Technology: Through Hole; ComponentLink1Description: Manufacturer URL; ComponentLink1URL: http://www.onsemi.com/; ComponentLink2Description: Datasheet; ComponentLink2URL: http://www.onsemi.cn/pub_link/Collateral/NE5534-D.PDF; ComponentLink3Description: Package Specification; ComponentLink3URL: http://www.onsemi.com/pub_link/Collateral/LM211-D.PDF
footprint ONSC-PDIP-8-626-05_M (DIP, 8-Leads, Body 10x7.1mm, Pitch 2.54mm)
pins: 1 BALANCE, 2 IN- (in), 3 IN+ (in), 4 V- (power), 5 COMPENSATION, 6 OUT (out), 7 V+ (power), 8 BALANCE/COMPENSATION

## NE5534ANG
designator U?
Single Low Noise Operational Amplifier, 6 to 40 V, 0 to 70 degC, 8-Pin PDIP, Pb-Free, Tube; Manufacturer: On Semiconductor; PartNumber: NE5534ANG; GBW Typ (MHz): 10; VCC Max (V): 40; VCC Min (V): 6; DatasheetVersion: Rev. 3; PackageVersion: Rev. M, 04/2010; PackageReference: PDIP-8-626-05; PackageDescription: 8-Pin Plastic Dual-In Line Package, Body 9.52 x 6.605 mm, Pitch 2.54 mm; Supplier 1: Digi-Key; Supplier Part Number 1: NE5534ANGOS-ND; Supplier 2: Farnell; Supplier Part Number 2: 1426386; Supplier 3: Newark; Supplier Part Number 3: 42K2216; Supplier 4: Mouser; Supplier Part Number 4: 863-NE5534ANG; Packing: Tube; RoHS: TRUE; Mounting Technology: Through Hole; ComponentLink1Description: Manufacturer URL; ComponentLink1URL: http://www.onsemi.com/; ComponentLink2Description: Datasheet; ComponentLink2URL: http://www.onsemi.cn/pub_link/Collateral/NE5534-D.PDF; ComponentLink3Description: Package Specification; ComponentLink3URL: http://www.onsemi.com/pub_link/Collateral/LM211-D.PDF
footprint ONSC-PDIP-8-626-05_M (DIP, 8-Leads, Body 10x7.1mm, Pitch 2.54mm)
pins: 1 BALANCE, 2 IN- (in), 3 IN+ (in), 4 V- (power), 5 COMPENSATION, 6 OUT (out), 7 V+ (power), 8 BALANCE/COMPENSATION

## NE5534DG
designator U?
Single Low Noise Operational Amplifier, 6 to 40 V, 0 to 70 degC, 8-Pin SOIC, Pb-Free, Tube; Manufacturer: On Semiconductor; PartNumber: NE5534DG; GBW Typ (MHz): 10; VCC Max (V): 40; VCC Min (V): 6; DatasheetVersion: Rev. 3; PackageVersion: Rev. AK, 02/2011; PackageReference: SOIC-8-751-07; PackageDescription: 8-Pin Small Outline Integrated Circuit, Body 4.9 x 3.9 mm, Pitch 1.27 mm; Supplier 1: Digi-Key; Supplier Part Number 1: NE5534DGOS-ND; Supplier 2: Farnell; Supplier Part Number 2: 1426387; Supplier 3: Newark; Supplier Part Number 3: 58M9772; Supplier 4: Mouser; Supplier Part Number 4: 863-NE5534DG; Packing: Tube; RoHS: TRUE; Mounting Technology: Surface Mount; ComponentLink1Description: Manufacturer URL; ComponentLink1URL: http://www.onsemi.com/; ComponentLink2Description: Datasheet; ComponentLink2URL: http://www.onsemi.cn/pub_link/Collateral/NE5534-D.PDF; ComponentLink3Description: Package Specification; ComponentLink3URL: http://www.onsemi.com/pub_link/Collateral/751-07.PDF
footprint ONSC-SOIC-8-751-07_V (SOIC, 8-Leads, Body 4.9x3.9mm, Pitch 1.27mm)
pins: 1 BALANCE, 2 IN- (in), 3 IN+ (in), 4 V- (power), 5 COMPENSATION, 6 OUT (out), 7 V+ (power), 8 BALANCE/COMPENSATION

## NE5534DR2
designator U?
Single Low Noise Operational Amplifier, 6 to 40 V, 0 to 70 degC, 8-Pin SOIC, Tape and Reel; Manufacturer: On Semiconductor; PartNumber: NE5534DR2; GBW Typ (MHz): 10; VCC Max (V): 40; VCC Min (V): 6; DatasheetVersion: Rev. 3; PackageVersion: Rev. AK, 02/2011; PackageReference: SOIC-8-751-07; PackageDescription: 8-Pin Small Outline Integrated Circuit, Body 4.9 x 3.9 mm, Pitch 1.27 mm; Supplier 1: Digi-Key; Supplier Part Number 1: NE5534DR2-ND; Packing: Tape and Reel; RoHS: FALSE; Mounting Technology: Surface Mount; ComponentLink1Description: Manufacturer URL; ComponentLink1URL: http://www.onsemi.com/; ComponentLink2Description: Datasheet; ComponentLink2URL: http://www.onsemi.cn/pub_link/Collateral/NE5534-D.PDF; ComponentLink3Description: Package Specification; ComponentLink3URL: http://www.onsemi.com/pub_link/Collateral/751-07.PDF
footprint ONSC-SOIC-8-751-07_V (SOIC, 8-Leads, Body 4.9x3.9mm, Pitch 1.27mm)
pins: 1 BALANCE, 2 IN- (in), 3 IN+ (in), 4 V- (power), 5 COMPENSATION, 6 OUT (out), 7 V+ (power), 8 BALANCE/COMPENSATION

## NE5534DR2G
designator U?
Single Low Noise Operational Amplifier, 6 to 40 V, 0 to 70 degC, 8-Pin SOIC, Pb-Free, Tape and Reel; Manufacturer: On Semiconductor; PartNumber: NE5534DR2G; GBW Typ (MHz): 10; VCC Max (V): 40; VCC Min (V): 6; DatasheetVersion: Rev. 3; PackageVersion: Rev. AK, 02/2011; PackageReference: SOIC-8-751-07; PackageDescription: 8-Pin Small Outline Integrated Circuit, Body 4.9 x 3.9 mm, Pitch 1.27 mm; Supplier 1: Digi-Key; Supplier Part Number 1: NE5534DR2G-ND; Supplier 2: Mouser; Supplier Part Number 2: 863-NE5534DR2G; Packing: Tape and Reel; RoHS: TRUE; Mounting Technology: Surface Mount; ComponentLink1Description: Manufacturer URL; ComponentLink1URL: http://www.onsemi.com/; ComponentLink2Description: Datasheet; ComponentLink2URL: http://www.onsemi.cn/pub_link/Collateral/NE5534-D.PDF; ComponentLink3Description: Package Specification; ComponentLink3URL: http://www.onsemi.com/pub_link/Collateral/751-07.PDF
footprint ONSC-SOIC-8-751-07_V (SOIC, 8-Leads, Body 4.9x3.9mm, Pitch 1.27mm)
pins: 1 BALANCE, 2 IN- (in), 3 IN+ (in), 4 V- (power), 5 COMPENSATION, 6 OUT (out), 7 V+ (power), 8 BALANCE/COMPENSATION

## NE5534N
designator U?
Single Low Noise Operational Amplifier, 6 to 40 V, 0 to 70 degC, 8-Pin PDIP, Tube; Manufacturer: On Semiconductor; PartNumber: NE5534N; GBW Typ (MHz): 10; VCC Max (V): 40; VCC Min (V): 6; DatasheetVersion: Rev. 3; PackageVersion: Rev. M, 04/2010; PackageReference: PDIP-8-626-05; PackageDescription: 8-Pin Plastic Dual-In Line Package, Body 9.52 x 6.605 mm, Pitch 2.54 mm; Supplier 1: Digi-Key; Supplier Part Number 1: NE5534N-ND; Supplier 2: Mouser; Supplier Part Number 2: 863-NE5534N; Packing: Tube; RoHS: FALSE; Mounting Technology: Through Hole; ComponentLink1Description: Manufacturer URL; ComponentLink1URL: http://www.onsemi.com/; ComponentLink2Description: Datasheet; ComponentLink2URL: http://www.onsemi.cn/pub_link/Collateral/NE5534-D.PDF; ComponentLink3Description: Package Specification; ComponentLink3URL: http://www.onsemi.com/pub_link/Collateral/LM211-D.PDF
footprint ONSC-PDIP-8-626-05_M (DIP, 8-Leads, Body 10x7.1mm, Pitch 2.54mm)
pins: 1 BALANCE, 2 IN- (in), 3 IN+ (in), 4 V- (power), 5 COMPENSATION, 6 OUT (out), 7 V+ (power), 8 BALANCE/COMPENSATION

## NE5534NG
designator U?
Single Low Noise Operational Amplifier, 6 to 40 V, 0 to 70 degC, 8-Pin PDIP, Pb-Free, Tube; Manufacturer: On Semiconductor; PartNumber: NE5534NG; GBW Typ (MHz): 10; VCC Max (V): 40; VCC Min (V): 6; DatasheetVersion: Rev. 3; PackageVersion: Rev. M, 04/2010; PackageReference: PDIP-8-626-05; PackageDescription: 8-Pin Plastic Dual-In Line Package, Body 9.52 x 6.605 mm, Pitch 2.54 mm; Supplier 1: Digi-Key; Supplier Part Number 1: NE5534NGOS-ND; Supplier 2: Farnell; Supplier Part Number 2: 1426388; Supplier 3: Newark; Supplier Part Number 3: 42K2219; Supplier 4: Mouser; Supplier Part Number 4: 863-NE5534NG; Packing: Tube; RoHS: TRUE; Mounting Technology: Through Hole; ComponentLink1Description: Manufacturer URL; ComponentLink1URL: http://www.onsemi.com/; ComponentLink2Description: Datasheet; ComponentLink2URL: http://www.onsemi.cn/pub_link/Collateral/NE5534-D.PDF; ComponentLink3Description: Package Specification; ComponentLink3URL: http://www.onsemi.com/pub_link/Collateral/LM211-D.PDF
footprint ONSC-PDIP-8-626-05_M (DIP, 8-Leads, Body 10x7.1mm, Pitch 2.54mm)
pins: 1 BALANCE, 2 IN- (in), 3 IN+ (in), 4 V- (power), 5 COMPENSATION, 6 OUT (out), 7 V+ (power), 8 BALANCE/COMPENSATION

## SA5230D
designator U?
Low Voltage Operational Amplifier, 1.8 to 15 V, -40 to 85 degC, 8-Pin SOIC, Tube; Manufacturer: On Semiconductor; PartNumber: SA5230D; GBW Typ (MHz): 0.25; VCC Max (V): 15; VCC Min (V): 1.8; DatasheetVersion: Rev. 5; PackageVersion: Rev. AK, 02/2011; PackageReference: SOIC-8-751-07; PackageDescription: 8-Pin Small Outline Integrated Circuit, Body 4.9 x 3.9 mm, Pitch 1.27 mm; Supplier 1: Digi-Key; Supplier Part Number 1: SA5230D-ND; Packing: Tube; RoHS: FALSE; Mounting Technology: Surface Mount; ComponentLink1Description: Manufacturer URL; ComponentLink1URL: http://www.onsemi.com/; ComponentLink2Description: Datasheet; ComponentLink2URL: http://www.onsemi.cn/pub_link/Collateral/NE5230-D.PDF; ComponentLink3Description: Package Specification; ComponentLink3URL: http://www.onsemi.com/pub_link/Collateral/751-07.PDF
footprint ONSC-SOIC-8-751-07_V (SOIC, 8-Leads, Body 4.9x3.9mm, Pitch 1.27mm)
pins: 1 NC, 2 IN- (in), 3 IN+ (in), 4 VEE (power), 5 BIAS ADJ (in), 6 OUT (out), 7 VCC (power), 8 NC